# Altium footprint library 1317A33-M5T1U4.PcbLib: 1 footprints
Each footprint in its own frame and in the unit in brackets; x right, y up, seen from the top. Pads: shape width x height; smd on the part's side, far side on the other; paste and mask are expansions set on the pad; w line width, h text height; cw(c..) or ccw(c..) is an arc to the next point about the centre after c.
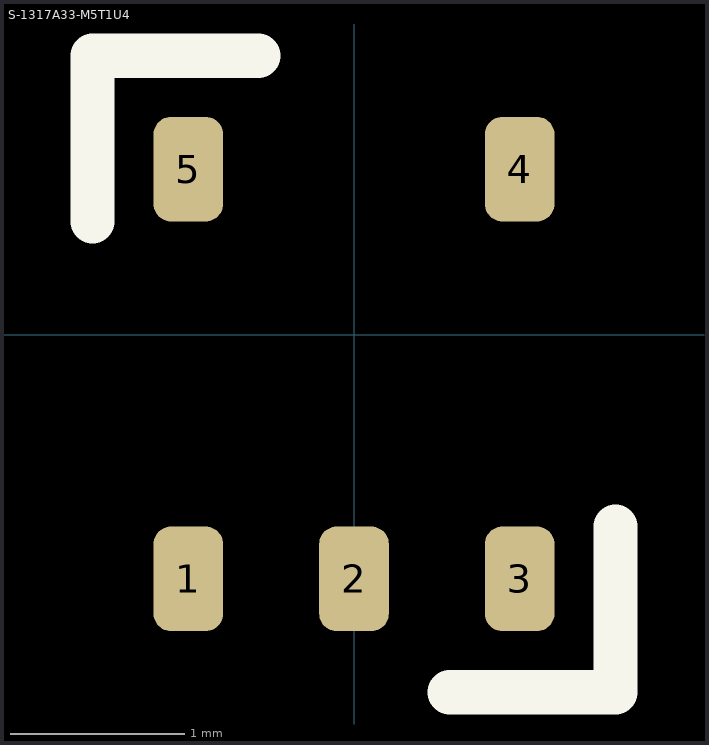
[diagram p0: the footprint, top view; thin cyan lines are the x and y axes]

## S-1317A33-M5T1U4 [mm]
pads (5):
  rrect50% 0.4x0.6 / inner round 0 / far side round 0 all layers, no hole: 1(-0.95,-1.4) 2(0,-1.4) 3(0.95,-1.4) 4(0.95,0.95) 5(-0.95,0.95)
Top Overlay:
  lines w0.254: -1.5,0.65 -1.5,1.6 -0.55,1.6 ; 0.55,-2.05 1.5,-2.05 1.5,-1.1